# EAGLE library part PIC18F1*20? (library 000001)
18/20/28-Pin High-Performance, Enhanced Flash Microcontrollers with 10-bit A/D and nanoWatt Technology Source: ww1.microchip.com/downloads/en/DeviceDoc/39605c.pdf
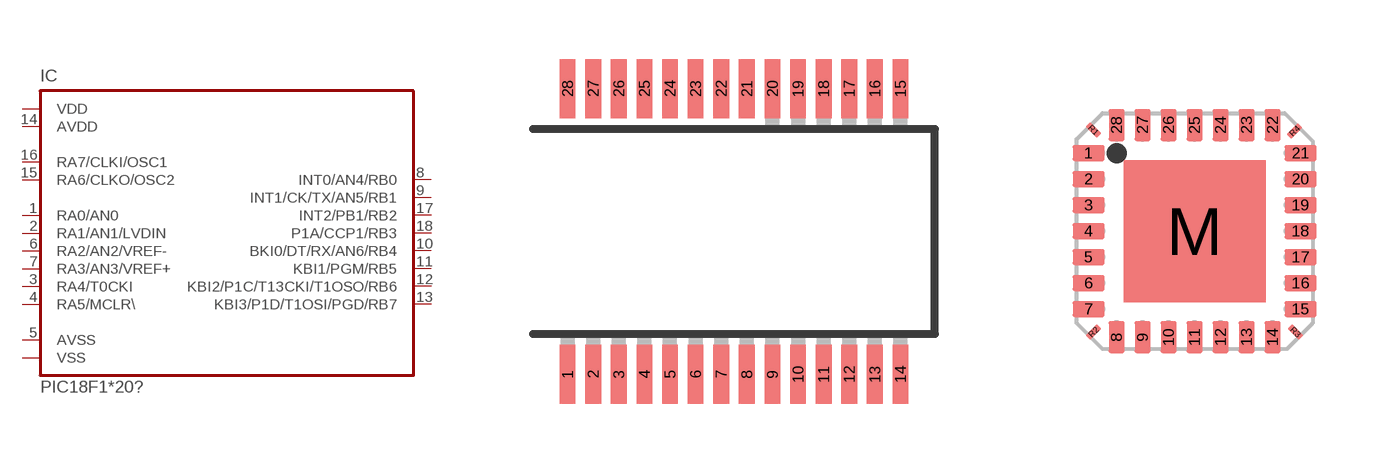
[diagram p7: symbol with the pads of SSOP20; footprints SSOP20, QFN28]

Designator prefix IC

## PIC18F1220SS, PIC18F1320SS  [SSOP20]
1  RA0/AN0
2  RA1/AN1/LVDIN
3  RA4/T0CKI
4  RA5/MCLR\  in
5  AVSS  pwr
6  RA2/AN2/VREF-
7  RA3/AN3/VREF+
8  INT0/AN4/RB0
9  INT1/CK/TX/AN5/RB1
10  BKI0/DT/RX/AN6/RB4
11  KBI1/PGM/RB5
12  KBI2/P1C/T13CKI/T1OSO/RB6
13  KBI3/P1D/T1OSI/PGD/RB7
14  AVDD  pwr
15  RA6/CLKO/OSC2
16  RA7/CLKI/OSC1
17  INT2/PB1/RB2
18  P1A/CCP1/RB3

## PIC18F1220ML, PIC18F1320ML  [QFN28]
1  RA5/MCLR\  in
3  VSS  pwr
5  AVSS  pwr
7  RA2/AN2/VREF-
8  RA3/AN3/VREF+
9  INT0/AN4/RB0
10  INT1/CK/TX/AN5/RB1
12  BKI0/DT/RX/AN6/RB4
13  KBI1/PGM/RB5
15  KBI2/P1C/T13CKI/T1OSO/RB6
16  KBI3/P1D/T1OSI/PGD/RB7
17  AVDD  pwr
19  VDD  pwr
20  RA6/CLKO/OSC2
21  RA7/CLKI/OSC1
23  INT2/PB1/RB2
24  P1A/CCP1/RB3
26  RA0/AN0
27  RA1/AN1/LVDIN
28  RA4/T0CKI

## Footprint SSOP20 (pad centres in mm)
Shrink Small Outline Package package type SS
smd 0.4 x 1.5: 1 -2.925,-3.625; 2 -2.275,-3.625; 3 -1.625,-3.625; 4 -0.975,-3.625; 5 -0.325,-3.625; 6 0.325,-3.625; 7 0.975,-3.625; 8 1.625,-3.625; 9 2.275,-3.625; 10 2.925,-3.625; 11 3.575,-3.625; 12 4.225,-3.625; 13 4.875,-3.625; 14 5.525,-3.625; 15 5.525,3.625; 16 4.875,3.625; 17 4.225,3.625; 18 3.575,3.625; 19 2.925,3.625; 20 2.275,3.625; 21 1.625,3.625; 22 0.975,3.625; 23 0.325,3.625; 24 -0.325,3.625; 25 -0.975,3.625; 26 -1.625,3.625; 27 -2.275,3.625; 28 -2.925,3.625

## Footprint QFN28 (pad centres in mm)
28-Lead Plastic Quad Flat No Lead Package (ML) 6x6 mm Body, Punch Singulated (QFN) Source: ww1.microchip.com/downloads/en/DeviceDoc/39605c.pdf
smd 0.8 x 0.4: 1 -2.65,1.95; 2 -2.65,1.3; 3 -2.65,0.65; 4 -2.65,0; 5 -2.65,-0.65; 6 -2.65,-1.3; 7 -2.65,-1.95; 15 2.65,-1.95; 16 2.65,-1.3; 17 2.65,-0.65; 18 2.65,0; 19 2.65,0.65; 20 2.65,1.3; 21 2.65,1.95
smd 0.4 x 0.8: 8 -1.95,-2.65; 9 -1.3,-2.65; 10 -0.65,-2.65; 11 0,-2.65; 12 0.65,-2.65; 13 1.3,-2.65; 14 1.95,-2.65; 22 1.95,2.65; 23 1.3,2.65; 24 0.65,2.65; 25 0,2.65; 26 -0.65,2.65; 27 -1.3,2.65; 28 -1.95,2.65
smd 3.55 x 3.55: M 0,0
smd 0.17 x 0.4 rotated 45: R1 -2.525,2.525
smd 0.17 x 0.4 rotated 135: R2 -2.525,-2.525
smd 0.17 x 0.4 rotated 225: R3 2.525,-2.525
smd 0.17 x 0.4 rotated 315: R4 2.5,2.5